# EAGLE library part LT3012EFETRPBF (library ruark2)
60V 250mA LDO Linear Voltage Regulator IC Positive Adjustable 1 Output 16-TSSOP-EP
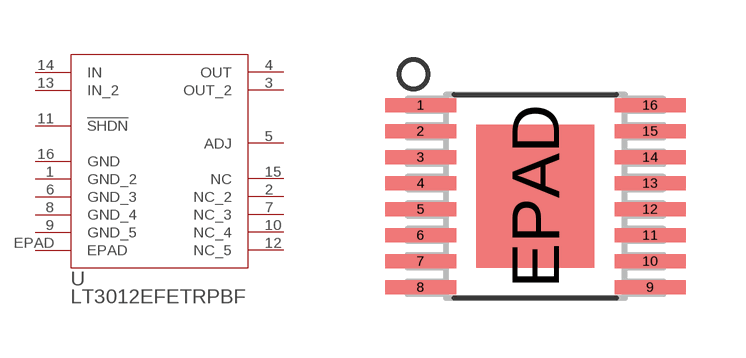
[diagram p145: symbol with the pads of TSSOP-16_FE/BB_LIT-M; footprint TSSOP-16_FE/BB_LIT-M]

Designator prefix U

## LT3012EFETRPBFTSSOP-16_FE/BB_LIT-M (PARTNO: LT3012EFE#TRPBFCT-ND)  [TSSOP-16_FE/BB_LIT-M]
1  GND_2  pwr
2  NC_2  nc
3  OUT_2  out
4  OUT  out
5  ADJ  in
6  GND_3  pwr
7  NC_3  nc
8  GND_4  pwr
9  GND_5  pwr
10  NC_4  nc
11  !SHDN  pas
12  NC_5  nc
13  IN_2  in
14  IN  in
15  NC  nc
16  GND  pwr
EPAD  EPAD  pas

## Footprint TSSOP-16_FE/BB_LIT-M (pad centres in mm)
smd 1.778 x 0.356: 1 -2.87,2.276; 2 -2.87,1.626; 3 -2.87,0.975; 4 -2.87,0.325; 5 -2.87,-0.325; 6 -2.87,-0.975; 7 -2.87,-1.626; 8 -2.87,-2.276; 9 2.87,-2.276; 10 2.87,-1.626; 11 2.87,-0.975; 12 2.87,-0.325; 13 2.87,0.325; 14 2.87,0.975; 15 2.87,1.626; 16 2.87,2.276
smd 2.946 x 3.581: EPAD 0,0